# EAGLE library part MA04-2 (library con-lstb)
PIN HEADER
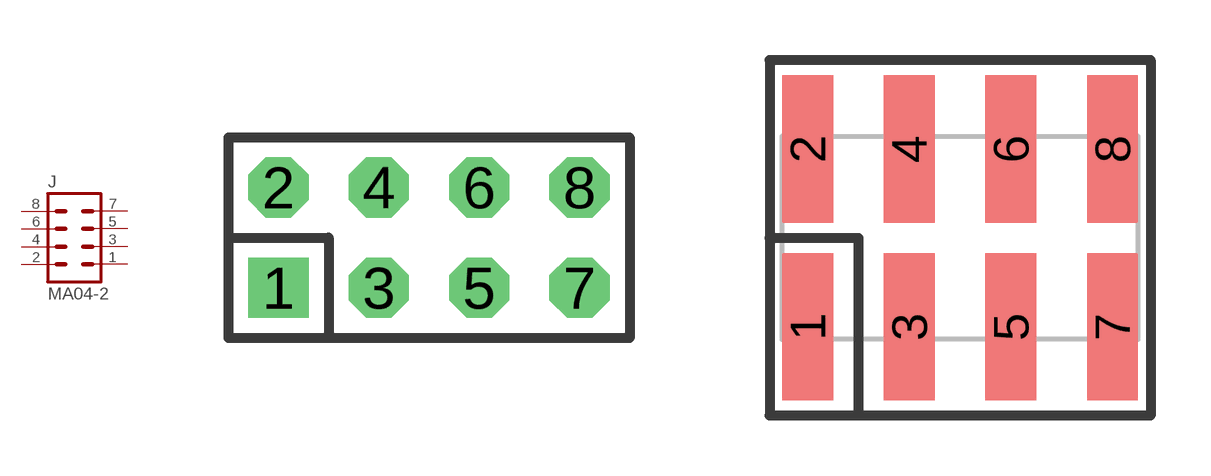
[diagram p36: symbol with the pads of MA04-2; footprints MA04-2, SMD-MA04-2]

Designator prefix J

## MA04-2  [MA04-2]
1  1  pas
2  2  pas
3  3  pas
4  4  pas
5  5  pas
6  6  pas
7  7  pas
8  8  pas

## MA04-2SMD  [SMD-MA04-2]
Pads as for MA04-2

## Footprint MA04-2 (pad centres in mm)
PIN HEADER
drill 1.016 square: 1 -3.81,-1.27
drill 1.016 octagon: 2 -3.81,1.27; 3 -1.27,-1.27; 4 -1.27,1.27; 5 1.27,-1.27; 6 1.27,1.27; 7 3.81,-1.27; 8 3.81,1.27

## Footprint SMD-MA04-2 (pad centres in mm)
SMD Dual Row, Vertical - 0.1" Sullins, G XCXXDABN-M30 Series
smd 1.27 x 3.68: 1 -3.81,-2.223; 2 -3.81,2.223; 3 -1.27,-2.223; 4 -1.27,2.223; 5 1.27,-2.223; 6 1.27,2.223; 7 3.81,-2.223; 8 3.81,2.223